# EAGLE library part JS1300 (library IntegerLabs)
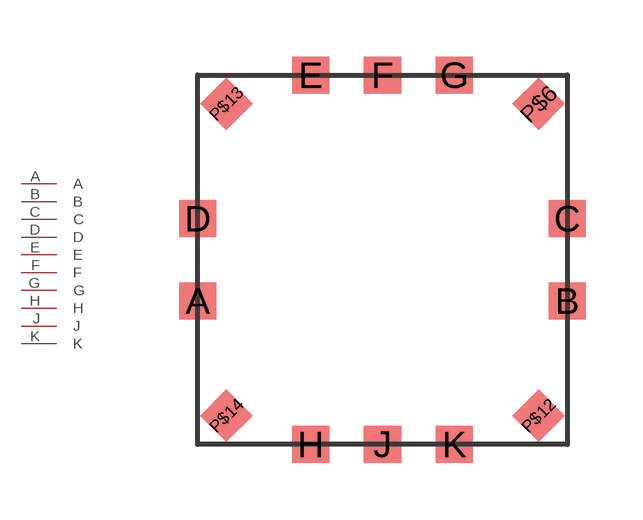
[diagram p6: symbol with the pads of JS1300; footprint JS1300]

Designator prefix -

## JS1300  [JS1300]
A  A
B  B
C  C
D  D
E  E
F  F
G  G
H  H
J  J
K  K

## Footprint JS1300 (pad centres in mm)
smd 0.991 x 0.991: A -4.902,-1.092; B 4.902,-1.092; C 4.902,1.092; D -4.902,1.092; E -1.905,4.902; F 0,4.902; G 1.905,4.902; H -1.905,-4.902; J 0,-4.902; K 1.905,-4.902
smd 0.991 x 0.991 rotated 45: P$6 4.14,4.14; P$12 4.14,-4.14; P$13 -4.14,4.14; P$14 -4.14,-4.14